# Altium integrated library ALEX_PowerIC.IntLib: 19 symbols
Pins are listed as number, name and electrical type; pins without a type are passive.

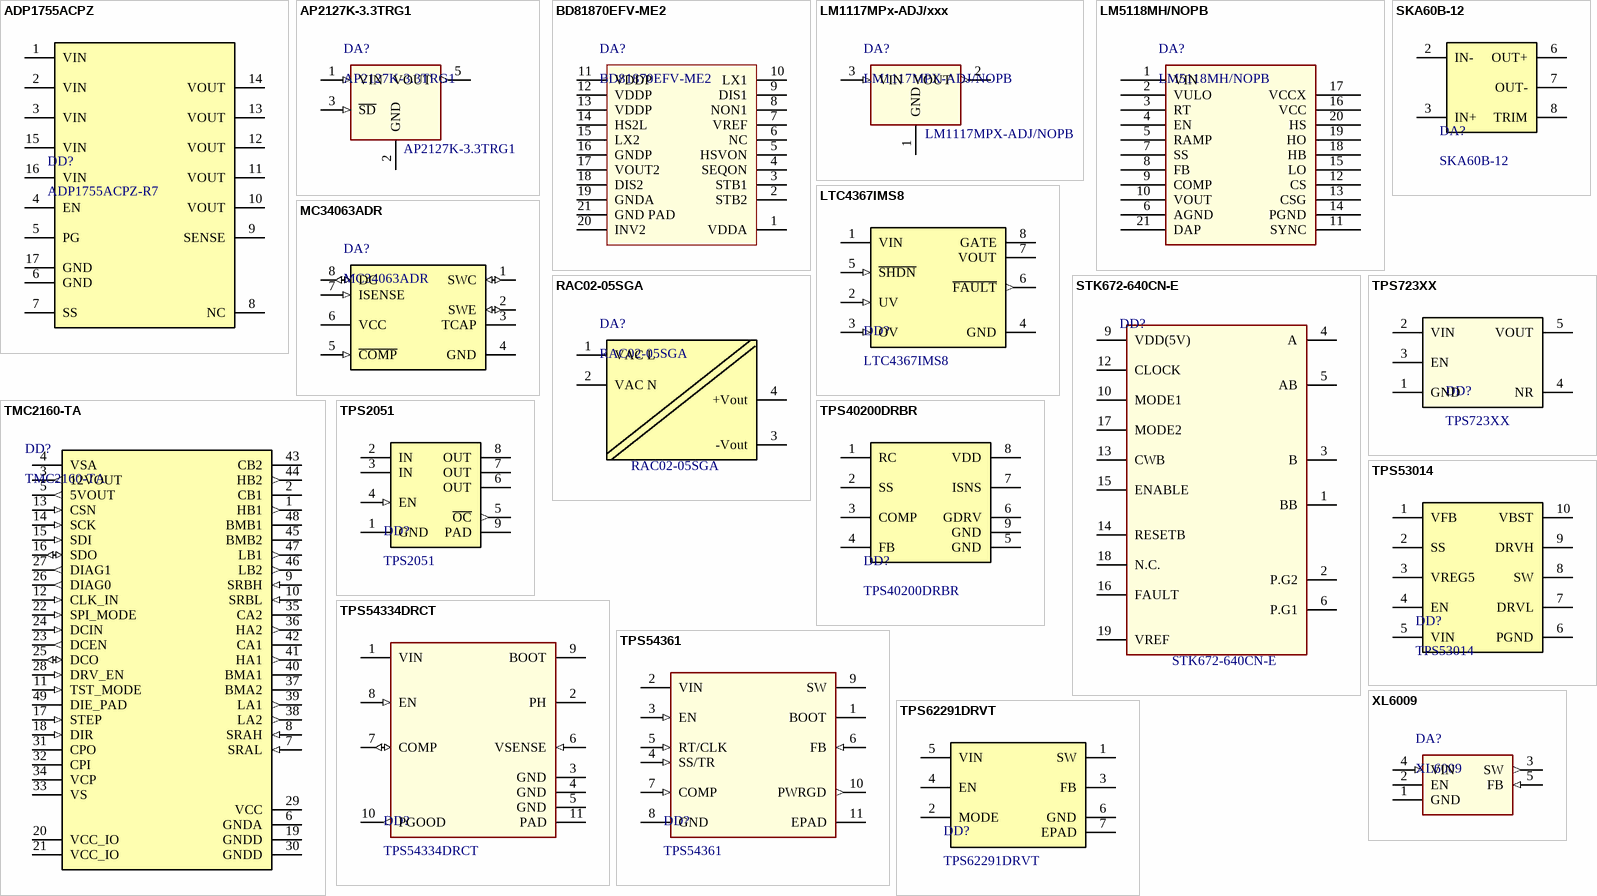
[diagram p0: symbols ADP1755ACPZ to XL6009]

## ADP1755ACPZ
designator DD?, comment ADP1755ACPZ-R7
Linear Voltage Regulator IC Positive Adjustable 1 Output 0.75 V ~ 3 V 1.2A 16-LFCSP-WQ (4x4); Manufacturer: Analog Devices Inc.; Power: 95%; Value: 65dB ~ 51dB (1kHz ~ 100kHz); Part Number: ADP1755ACPZ-R7; Package: 16LFCSP; Price: 2,41; Documentation: https://www.analog.com/media/en/technical-documentation/data-sheets/ADP1754_1755.pdf; ShoppingPlace: https://www.digikey.com/product-detail/en/analog-devices-inc/ADP1755ACPZ-R7/ADP1755ACPZ-R7TR-ND/1982017; Quantity: *
footprint 16-LFCSP (4mmx4mmx0.8mm)
pins: 1 VIN, 2 VIN, 3 VIN, 4 EN, 5 PG, 6 GND, 7 SS, 8 NC, 9 SENSE, 10 VOUT, 11 VOUT, 12 VOUT, 13 VOUT, 14 VOUT, 15 VIN, 16 VIN, 17 GND

## AP2127K-3.3TRG1
designator DA?
Linear Voltage Regulator IC Positive Fixed 1 Output 3.3V 300mA SOT-23-5; Manufacturer: Diodes Incorporated; Power: 0.3А; Tolerance: 0… 5V; ValueDesc: Регулятор напряжения+'Part Number'+'Power'+'Tolerance'+'Package'+'Texas Instruments'; Part Number: AP2127K-3.3TRG1; Package: SOT-23-5; Price: 0.48; Documentation: https://www.diodes.com/assets/Datasheets/AP2127.pdf; ShoppingPlace: https://www.digikey.com/product-detail/en/diodes-incorporated/AP2127K-3.3TRG1/AP2127K-3.3TRG1DICT-ND/4505275; Quantity: 1; ComponentLink1Description: Diodes Incorporated; ComponentLink1URL: https://www.diodes.com/assets/Datasheets/AP2127.pdf; Value: AP2127K-3.3TRG1
footprint SOT23-5-1.6
pins: 1 VIN (in), 2 GND (power), 3 ~{SD} (in), 5 VOUT (out)

## BD81870EFV-ME2
designator DA?
Buck, Boost Switching Regulator IC Positive and Negative Adjustable -13V 2 Output 20-VSSOP (0.173", 4.40mm Width) Exposed Pad; Manufacturer: Rohm Semiconductor; Power: 18V; Value: 2.1MHz; Tolerance: 2.5~5.5V; Part Number: BD81870EFV-ME2; Package: 20-VSSOP (0.173", 4.40mm Width) Exposed Pad; Price: 3.46; Documentation: https://belchip.by/sitedocs/28823.pdf; ShoppingPlace: https://www.digikey.com/product-detail/en/rohm-semiconductor/BD81870EFV-ME2/BD81870EFV-ME2CT-ND/8026795; Quantity: 1; ComponentLink1Description: Rohm Semiconductor; ComponentLink1URL: http://rohmfs.rohm.com/en/products/databook/datasheet/ic/power/switching_regulator_system/bd81870efv-m-e.pdf
footprint 20-VSSOP (20-VSSOP (0.173", 4.40mm Width) Exposed Pad)
pins: 1 VDDA, 2 STB2, 3 STB1, 4 SEQON, 5 HSVON, 6 NC, 7 VREF, 8 NON1, 9 DIS1, 10 LX1, 11 VDDP, 12 VDDP, 13 VDDP, 14 HS2L, 15 LX2, 16 GNDP, 17 VOUT2, 18 DIS2, 19 GNDA, 20 INV2, 21 GND PAD

## LM1117MPx-ADJ/xxx
designator DA?, comment LM1117MPX-ADJ/NOPB
Linear Voltage Regulator IC Positive Fixed 1 Output 3.3V 800mA SOT-223-4; Manufacturer: Texas Instruments; Power: 0.8А; Tolerance: 0… 15V; ValueDesc: Регулятор напряжения+'Part Number'+'Power'+'Tolerance'+'Package'+'Texas Instruments'; Part Number: LM1117MPX-ADJ/NOPB; Package: SOT-233; Price: 1,15; Documentation: https://static.chipdip.ru/lib/977/DOC002977102.pdf; ShoppingPlace: https://belchip.by/product/?selected_product=07465; Quantity: 1; ComponentLink1Description: Texas Instruments; ComponentLink1URL: https://belchip.by/sitedocs/lm1117.pdf; Value: LM1117MPX-ADJ/NOPB
footprint SOT233-4N (SOT223, 4-Leads, Body 6,50x7,00mm (avg), Pitch 2,30mm, IPC Medium Density)
pins: 1 GND (power), 2 VOUT (out), 3 VIN (in)

## LM5118MH/NOPB
designator DA?
Buck, Buck-Boost Regulator Positive Output Step-Down, Step-Up/Step-Down DC-DC Controller IC 20-HTSSOP; Manufacturer: Texas Instruments; Power: 3A; Value: 200kHz, 515kHz; Tolerance: 3 V ~ 75 V; Part Number: LM5118MH/NOPB; Package: 20-HTSSOP; Price: 5.98; Documentation: https://www.analog.com/media/en/technical-documentation/data-sheets/4367fb.pdf; ShoppingPlace: https://www.digikey.com/product-detail/en/linear-technology-analog-devices/LTC4367IMS8-PBF/LTC4367IMS8-PBF-ND/5699843; Quantity: *; ComponentLink1Description: Texas Instruments; ComponentLink1URL: http://www.ti.com/lit/ds/symlink/lm5118.pdf
footprint 20-HTSSOP (20-PowerTSSOP (0.173", 4.40mm Width))
pins: 1 VIN, 2 VULO, 3 RT, 4 EN, 5 RAMP, 6 AGND, 7 SS, 8 FB, 9 COMP, 10 VOUT, 11 SYNC, 12 CS, 13 CSG, 14 PGND, 15 LO, 16 VCC, 17 VCCX, 18 HB, 19 HO, 20 HS, 21 DAP

## LTC4367IMS8
designator DD?
SUPPLY PROTECTION CONTROLLER 2.5V~60V; Manufacturer: Texas Instruments; Power: 70µA; Part Number: LTC4367IMS8; Package: 8-MSOP; Price: 4,2; Documentation: https://www.analog.com/media/en/technical-documentation/data-sheets/4367fb.pdf; ShoppingPlace: https://www.digikey.com/product-detail/en/linear-technology-analog-devices/LTC4367IMS8-PBF/LTC4367IMS8-PBF-ND/5699843; Quantity: *; Value: 2.5 V ~ 60 V; Tolerance: 2.5 V ~ 60 V
footprint SSOP-8-3X3-0.65 (MSOP, 8-Leads, Body 3,00x3,00mm, Pitch 0,65mm, IPC Medium Density)
pins: 1 VIN, 2 UV (in), 3 OV (in), 4 GND, 5 ~{SHDN} (in), 6 ~{FAULT} (out) "Power", 7 VOUT "Power", 8 GATE "Overtemperature Shutdown output"

## MC34063ADR
designator DA?
Buck, Boost Switching Regulator IC Positive or Negative Adjustable 1.25V 1 Output 1.5A (Switch) 8-SOIC (0.154", 3.90mm Width); Manufacturer: Texas instruments; Value: 100kHz; Tolerance: 3~40V; Part Number: MC34063ADR; Package: 8-SOIC (0.154", 3.90mm Width); Price: 2; Documentation: https://belchip.by/sitedocs/28823.pdf; ShoppingPlace: https://belchip.by/product/?selected_product=28823; Power: 1.5A (Switch); Quantity: 1; ComponentLink1Description: STMicroelectronics; ComponentLink1URL: https://www.st.com/content/ccc/resource/technical/document/datasheet/03/f9/c4/3d/7f/eb/4c/5e/CD00001232.pdf/files/CD00001232.pdf/jcr:content/translations/en.CD00001232.pdf
footprint 8-DIP
footprint 8-SOIC-4,90x3,90mm (SOIC, 8-Leads, Body 4,90x3,90mm, Pitch 1,27mm, IPC Medium Density)
pins: 1 SWC (io), 2 SWE (io), 3 TCAP, 4 GND, 5 ~{COMP} (in), 6 VCC (power) "Power", 7 ISENSE (in) "Power", 8 DC (io) "Overtemperature Shutdown output"

## RAC02-05SGA
designator DA?
Enclosed AC DC Converter 1 Output 5V 400mA 85 ~ 264 VAC Input; Manufacturer: RECOM; Power: 5V 2W; ValueDesc: Преобразователь+'Part Number'+'Power'+'4-DIP Module'; Part Number: RAC02-05SGA; Package: 4-DIP Module; Price: 6.3; Documentation: https://www.recom-power.com/pdf/Powerline-AC-DC/RAC02-GA.pdf; ShoppingPlace: https://www.digikey.com/product-detail/en/recom-power/RAC02-05SGA/945-3047-ND/6677089; Quantity: 1; Tolerance: 400mA; ComponentLink1Description: RECOM; ComponentLink1URL: https://www.recom-power.com/pdf/Powerline-AC-DC/RAC02-GA.pdf; Value: RAC02-05SGA
footprint 4-DIP Module (1.33" L x 0.87" W x 0.75" H (33.7mm x 22.2mm x 19.0mm))
pins: 1 VAC L (power), 2 VAC N, 3 -Vout (power), 4 +Vout (power)

## SKA60B-12
designator DA?
Isolated Module DC DC Converter 1 Output 12V 5A 18V - 36V Input 60W; Manufacturer: MEAN WELL USA Inc.; Power: 92%; Value: 12V 5A; Tolerance: 18 V ~36V; Part Number: SKA60B-12; Package: 8-DIP Module; Price: 48; Documentation: https://www.meanwell.com/Upload/PDF/SKA60/SKA60-SPEC.PDF; ShoppingPlace: https://www.digikey.com/product-detail/en/mean-well-usa-inc/SKA60B-12/1866-4589-ND/7706740; Quantity: *
footprint 8-DIP Module (2.00" L x 2.00" W x 0.43" H (50.8mm x 50.8mm x 11.0mm)-SKA60Series)
pins: 2 IN-, 3 IN+, 6 OUT+ "Overtemperature Shutdown output", 7 OUT- "Power", 8 TRIM

## STK672-640CN-E
designator DD?
Unipolar Motor Driver Power MOSFET Parallel 19-SIP; Manufacturer: ON Semiconductor; Power: 4А; Tolerance: 0 V ~ 46 V; Part Number: STK672-640CN-E; Package: 19-SIP; Price: 1,3; Documentation: https://www.onsemi.com/pub/Collateral/ENA2317-D.PDF; ShoppingPlace: https://www.digikey.com/product-detail/en/on-semiconductor/STK672-640CN-E/STK672-640CN-EOS-ND/5761772; Quantity: *; Value: STK672-640CN-E
footprint SIP19 (29.2x14.4)
pins: 1 BB, 2 P.G2, 3 B, 4 A, 5 AB, 6 P.G1, 9 VDD(5V), 10 MODE1, 12 CLOCK, 13 CWB, 14 RESETB, 15 ENABLE, 16 FAULT, 17 MODE2, 18 N.C., 19 VREF

## TMC2160-TA
designator DD?
Bipolar Motor Driver Power MOSFET SPI, Step/Direction 48-TQFP-EP (7x7); Manufacturer: Trinamic Motion Control GmbH; Power: 20А; Value: 10 V ~ 50 V; Part Number: TMC2160-TA; Package: 48-TQFP Exposed Pad; Price: 5,3; Documentation: https://www.trinamic.com/fileadmin/assets/Products/ICs_Documents/TMC2160-datasheet_Rev1.00.pdf; ShoppingPlace: https://www.digikey.com/product-detail/en/trinamic-motion-control-gmbh/TMC2160-TA/1460-1338-ND/9645275; Quantity: *
footprint 48-TQFP_TERMALPAD
pins: 1 HB1 (out), 2 CB1, 3 12VOUT (out), 4 VSA (power), 5 5VOUT (out), 6 GNDA, 7 SRAL (in), 8 SRAH (in), 9 SRBH (in), 10 SRBL (in), 11 TST_MODE (in), 12 CLK_IN (in), 13 CSN (in), 14 SCK (in), 15 SDI (in), 16 SDO (io), 17 STEP (in), 18 DIR (in), 19 GNDD (power), 20 VCC_IO (power), 21 VCC_IO (power), 22 SPI_MODE (in), 23 DCEN (out), 24 DCIN (in), 25 DCO (io), 26 DIAG0 (out), 27 DIAG1 (out), 28 DRV_EN (in), 29 VCC (power), 30 GNDD (power), 31 CPO (power), 32 CPI (power), 33 VS (power), 34 VCP, 35 CA2 (power), 36 HA2 (out), 37 BMA2 (power), 38 LA2 (out), 39 LA1 (out), 40 BMA1 (power), 41 HA1 (out), 42 CA1 (power), 43 CB2 (power), 44 HB2 (out), 45 BMB2 (power), 46 LB2 (out), 47 LB1 (out), 48 BMB1 (power), 49 DIE_PAD

## TPS723XX
designator DD?
Linear Voltage Regulator IC Negative Adjustable 1 Output -1.2 V ~ -10 V 200mA SOT-23-5; Manufacturer: Texas Instruments; Power: 95%; Value: -10V; Part Number: TPS723XX; Package: SOT-23-5; Price: 1,2; Documentation: http://www.ti.com/lit/ds/symlink/tps723.pdf; ShoppingPlace: https://www.digikey.com/product-detail/en/texas-instruments/TPS72301DBVR/296-27049-2-ND/1672722; Quantity: *; Tolerance: -10V
footprint SOT23-5-1.6
pins: 1 GND, 2 VIN, 3 EN, 4 NR, 5 VOUT

## TPS2051
designator DD?
IC 0.5A POWER DIST SW 8-MSOP; Manufacturer: Texas Instruments; Power: 95%; Value: 4.5 V ~ 28V; Tolerance: 2.7 V ~ 5.5 V; Part Number: TPS2051; Package: 8-MSOP-PowerPad; Price: 1,6; Documentation: http://www.ti.com/lit/ds/symlink/tps2051b.pdf; ShoppingPlace: https://www.digikey.com/product-detail/en/texas-instruments/TPS2051BDGNR/296-17313-1-ND/684817; Quantity: *
footprint SSOP8-3x3-o.65-T
pins: 1 GND, 2 IN, 3 IN, 4 EN (in), 5 ~{OC} (out), 6 OUT "Power", 7 OUT "Power", 8 OUT "Overtemperature Shutdown output", 9 PAD

## TPS40200DRBR
designator DD?
IC REG CTRLR BUCK 8SON; Manufacturer: Texas Instruments; Power: 95%; Value: 4.5 V ~ 52 V; Part Number: TPS40200DRBR; Package: VSON-8; Price: 1,97; Documentation: http://www.ti.com/lit/ds/symlink/tps40200.pdf; ShoppingPlace: https://www.digikey.com/product-detail/en/texas-instruments/TPS40200DRBR/296-23923-6-ND/1972367; Quantity: *; Tolerance: 4.5 V ~ 52 V
footprint 8-VSON (3.1mmx3.1mmx1mm)
pins: 1 RC, 2 SS, 3 COMP, 4 FB, 5 GND, 6 GDRV, 7 ISNS, 8 VDD, 9 GND

## TPS53014
designator DD?
IC REG CTRLR BUCK 10MSOP; Manufacturer: Texas Instruments; Power: 95%; Value: 4.5 V ~ 28V; Part Number: TPS53014; Package: 10MSOP; Price: 2,41; Documentation: http://www.ti.com/lit/ds/symlink/tps53014.pdf; ShoppingPlace: https://www.digikey.com/product-detail/en/texas-instruments/TPS53014DGSR/296-30492-1-ND/3431366; Quantity: *; Tolerance: 4.5 V ~ 28V
footprint 10-MSOP (3.1mmx3.1mmx1.1mm)
pins: 1 VFB, 2 SS, 3 VREG5, 4 EN, 5 VIN, 6 PGND, 7 DRVL, 8 SW, 9 DRVH, 10 VBST

## TPS54334DRCT
designator DD?
Step Down 4.2V~28V Input voltage 3A 570kHz; Manufacturer: Texas Instruments; Power: 95%; Value: 4.2V~28V 3A; Part Number: TPS54334DRCT; Package: 6-WDFN Exposed Pad; Price: 1,81; Documentation: http://www.ti.com/lit/ds/symlink/tps54334.pdf; ShoppingPlace: https://www.digikey.com/product-detail/en/texas-instruments/TPS62291DRVT/296-23330-2-ND/1833265; Quantity: *; Tolerance: 4.2V~28V 3A
footprint SON-10-3X3-0.5-T-SPECIAL
pins: 1 VIN, 2 PH, 3 GND, 4 GND, 5 GND, 6 VSENSE (in), 7 COMP (io), 8 EN (in), 9 BOOT, 10 PGOOD (out), 11 PAD

## TPS54361
designator DD?
Step Down 4.2V~60V 3.5A 2.5MHz 10-WSON Exposed Pad; Manufacturer: Texas Instruments; Power: 95%; Part Number: TPS54361; Package: 10-WSON (4x4); Price: 3,5; Documentation: http://www.ti.com/lit/ds/symlink/tps54361.pdf; ShoppingPlace: https://www.digikey.com/product-detail/en/texas-instruments/TPS54361DPRT/296-37248-2-ND/4695367; Quantity: *; Value: 3.5A; Tolerance: 3.5A
footprint SON-10-4X4-0.8-T
pins: 1 BOOT, 2 VIN, 3 EN (in), 4 SS/TR (in), 5 RT/CLK (in), 6 FB (in), 7 COMP (in), 8 GND, 9 SW, 10 PWRGD (out), 11 EPAD

## TPS62291DRVT
designator DD?
REG BUCK 3.3V 1A SYNC 6SON; Manufacturer: Texas Instruments; Power: 95%; Part Number: TPS62291DRVT; Package: 6-WDFN Exposed Pad; Price: 1,3; Documentation: http://www.ti.com/lit/ds/symlink/tps62293.pdf; ShoppingPlace: https://www.digikey.com/product-detail/en/texas-instruments/TPS62291DRVT/296-23330-2-ND/1833265; Quantity: *; Value: 3.3V; Tolerance: 1A
footprint SON-6-2X2-0.65-T (SON, 6-Leads, Body 2,00x2,00mm, Pitch 0,65mm, Thermal Pad 1,60x0,89mm, IPC Medium Density)
pins: 1 SW, 2 MODE, 3 FB, 4 EN, 5 VIN, 6 GND, 7 EPAD

## XL6009
designator DA?
400KHz 60V 4A Switching Current Boost / Buck-Boost / Inverting DC/DC Converter; Manufacturer: Китай; Power: 92%; Value: 5… 35В;; Tolerance: 6… 45В,4A; Part Number: XL6009; Package: TO-263-5; Price: 1; Documentation: https://static.chipdip.ru/lib/977/DOC002977102.pdf; ShoppingPlace: https://ru.aliexpress.com/item/Free-shipping-10pcs-lot-XL6009-XL6009E1-Boost-DC-converter-chip-SMD-TO263-new-original/32590976289.html?spm=a2g0v.search0604.3.45.41571a38sATq9q&s=p&ws_ab_test=searchweb0_0,searchweb201602_4_10065_10068_319_10059_10884_317_10887_10696_100031_321_322_10084_453_10083_454_10103_433_10618_431_10307_537_536_10902,searchweb201603_51,ppcSwitch_0&algo_expid=e32c9be2-3ed7-4a8d-af4c-f1cd998bfe8a-6&algo_pvid=e32c9be2-3ed7-4a8d-af4c-f1cd998bfe8a&transAbTest=ae803_4; Quantity: 1
footprint TO263-5L
pins: 1 GND, 2 EN, 3 SW (out), 4 VIN (in), 5 FB (in)